# Altium schematic symbol library pwr_ctrl_rbf.SchLib: 9 symbols
Pins are listed as number, name and electrical type; pins without a type are passive.

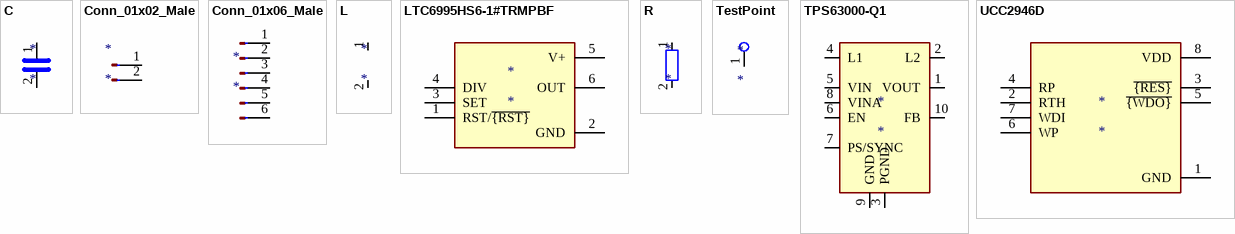
[diagram p0: symbols C to UCC2946D]

## C
designator *
pins: 1, 2

## Conn_01x02_Male
designator *
pins: 1 Pin_1, 2 Pin_2

## Conn_01x06_Male
designator *
pins: 1 Pin_1, 2 Pin_2, 3 Pin_3, 4 Pin_4, 5 Pin_5, 6 Pin_6

## L
designator *
pins: 1, 2

## LTC6995HS6-1#TRMPBF
designator *
pins: 1 RST/~{{RST}}, 2 GND, 3 SET, 4 DIV, 5 V+, 6 OUT

## R
designator *
pins: 1, 2

## TestPoint
designator *
pins: 1

## TPS63000-Q1
designator *
pins: 1 VOUT, 2 L2, 3 PGND, 4 L1, 5 VIN, 6 EN, 7 PS/SYNC, 8 VINA, 9 GND, 10 FB, 11 PGND hidden

## UCC2946D
designator *
pins: 1 GND, 2 RTH, 3 ~{{RES}}, 4 RP, 5 ~{{WDO}}, 6 WP, 7 WDI, 8 VDD